# Altium footprint library ActiveCrystal_10MHz_7050.PcbLib: 1 footprints
Each footprint in its own frame and in the unit in brackets; x right, y up, seen from the top. Pads: shape width x height; smd on the part's side, far side on the other; paste and mask are expansions set on the pad; w line width, h text height; cw(c..) or ccw(c..) is an arc to the next point about the centre after c.
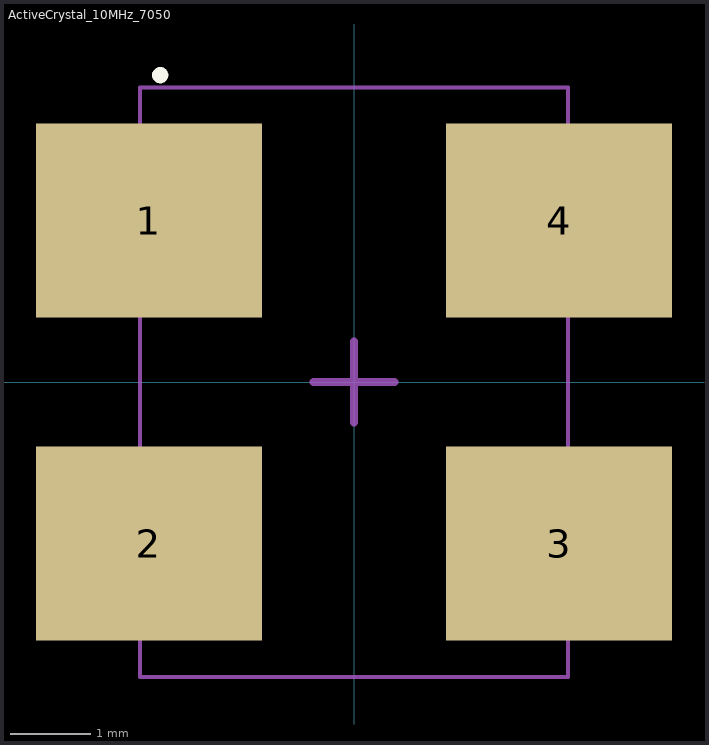
[diagram p0: the footprint, top view; thin cyan lines are the x and y axes]

## ActiveCrystal_10MHz_7050 [mm] "DFN, 4-Leads, Body 7.00x5.00mm, Pitch 4.00mm, IPC Medium Density"
height 1.9
pads (4):
  rect 2.8x2.4 smd: 1(-2.54,2) 2(-2.54,-2) 3(2.54,-2) 4(2.54,2)
Top Overlay:
  circle w0.1: c-2.4,3.8 r0.05
Mechanical 15:
  lines w0.05: -2.65,-3.65 -2.65,3.65 2.65,3.65 2.65,-3.65 -2.65,-3.65
  lines w0.1: -0.5,0 0.5,0 ; 0,-0.5 0,0.5